# EAGLE library part SILICONLAB-SI7005 (library FaBo-Sensor)
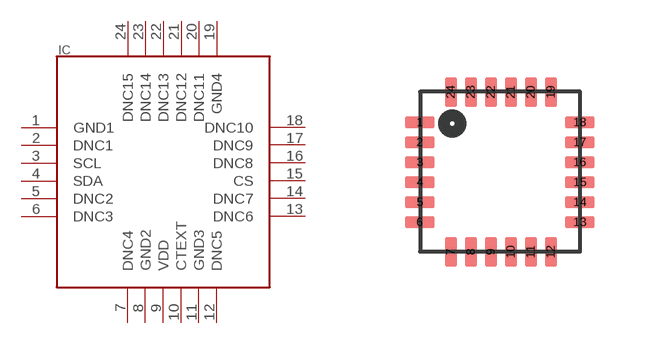
[diagram p3: symbol with the pads of SILICONLAB-SI7005; footprint SILICONLAB-SI7005]

Designator prefix IC

## SILICONLAB-SI7005  [SILICONLAB-SI7005]
1  GND1
2  DNC1
3  SCL
4  SDA
5  DNC2
6  DNC3
7  DNC4
8  GND2
9  VDD
10  CTEXT
11  GND3
12  DNC5
13  DNC6
14  DNC7
15  CS
16  DNC8
17  DNC9
18  DNC10
19  GND4
20  DNC11
21  DNC12
22  DNC13
23  DNC14
24  DNC15

## Footprint SILICONLAB-SI7005 (pad centres in mm)
smd 0.75 x 0.3: 1 -2.01,1.23; 2 -2.01,0.73; 3 -2.01,0.23; 4 -2.01,-0.27; 5 -2.01,-0.77; 6 -2.01,-1.27; 13 1.99,-1.27; 14 1.99,-0.77; 15 1.99,-0.27; 16 1.99,0.23; 17 1.99,0.73; 18 1.99,1.23
smd 0.3 x 0.75: 7 -1.23,-2.01; 8 -0.73,-2.01; 9 -0.23,-2.01; 10 0.27,-2.01; 11 0.77,-2.01; 12 1.27,-2.01; 19 1.27,1.99; 20 0.77,1.99; 21 0.27,1.99; 22 -0.23,1.99; 23 -0.73,1.99; 24 -1.23,1.99